# EAGLE library part XBEE_S2C_AKIZUKI_SOCKET (library XBeeAKIZUKI_SOCKET)
Xbee akizuzki socket
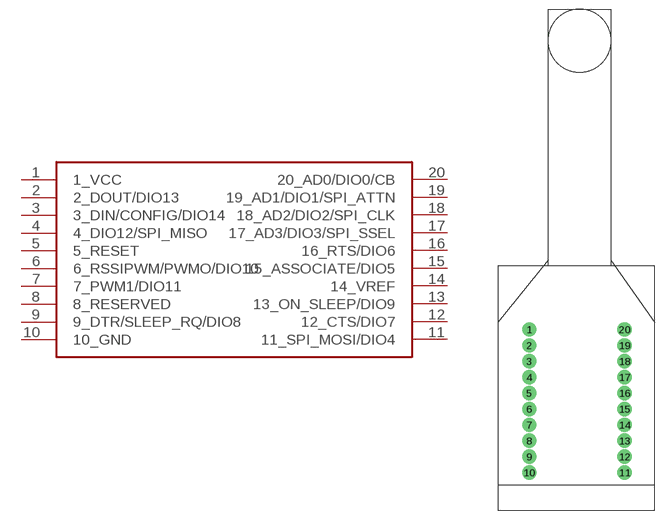
[diagram p0: symbol with the pads of XBEE_AKIZUKI_SOCKET; footprint XBEE_AKIZUKI_SOCKET]

Designator prefix XBEE

## XBEE_S2C_AKIZUKI_SOCKET  [XBEE_AKIZUKI_SOCKET]
1  1_VCC
2  2_DOUT/DIO13
3  3_DIN/CONFIG/DIO14
4  4_DIO12/SPI_MISO
5  5_RESET
6  6_RSSIPWM/PWMO/DIO10
7  7_PWM1/DIO11
8  8_RESERVED
9  9_DTR/SLEEP_RQ/DIO8
10  10_GND
11  11_SPI_MOSI/DIO4
12  12_CTS/DIO7
13  13_ON_SLEEP/DIO9
14  14_VREF
15  15_ASSOCIATE/DIO5
16  16_RTS/DIO6
17  17_AD3/DIO3/SPI_SSEL
18  18_AD2/DIO2/SPI_CLK
19  19_AD1/DIO1/SPI_ATTN
20  20_AD0/DIO0/CB

## Footprint XBEE_AKIZUKI_SOCKET (pad centres in mm)
XBee S2C akizuki socket
drill 1 pad 2.3: 1 0,22.86; 2 0,20.32; 3 0,17.78; 4 0,15.24; 5 0,12.7; 6 0,10.16; 7 0,7.62; 8 0,5.08; 9 0,2.54; 10 0,0; 11 15.24,0; 12 15.24,2.54; 13 15.24,5.08; 14 15.24,7.62; 15 15.24,10.16; 16 15.24,12.7; 17 15.24,15.24; 18 15.24,17.78; 19 15.24,20.32; 20 15.24,22.86